# Altium integrated library Maxim Supervisors, Voltage Monitors and Sequencers.IntLib: 631 symbols (part 7 of 13)
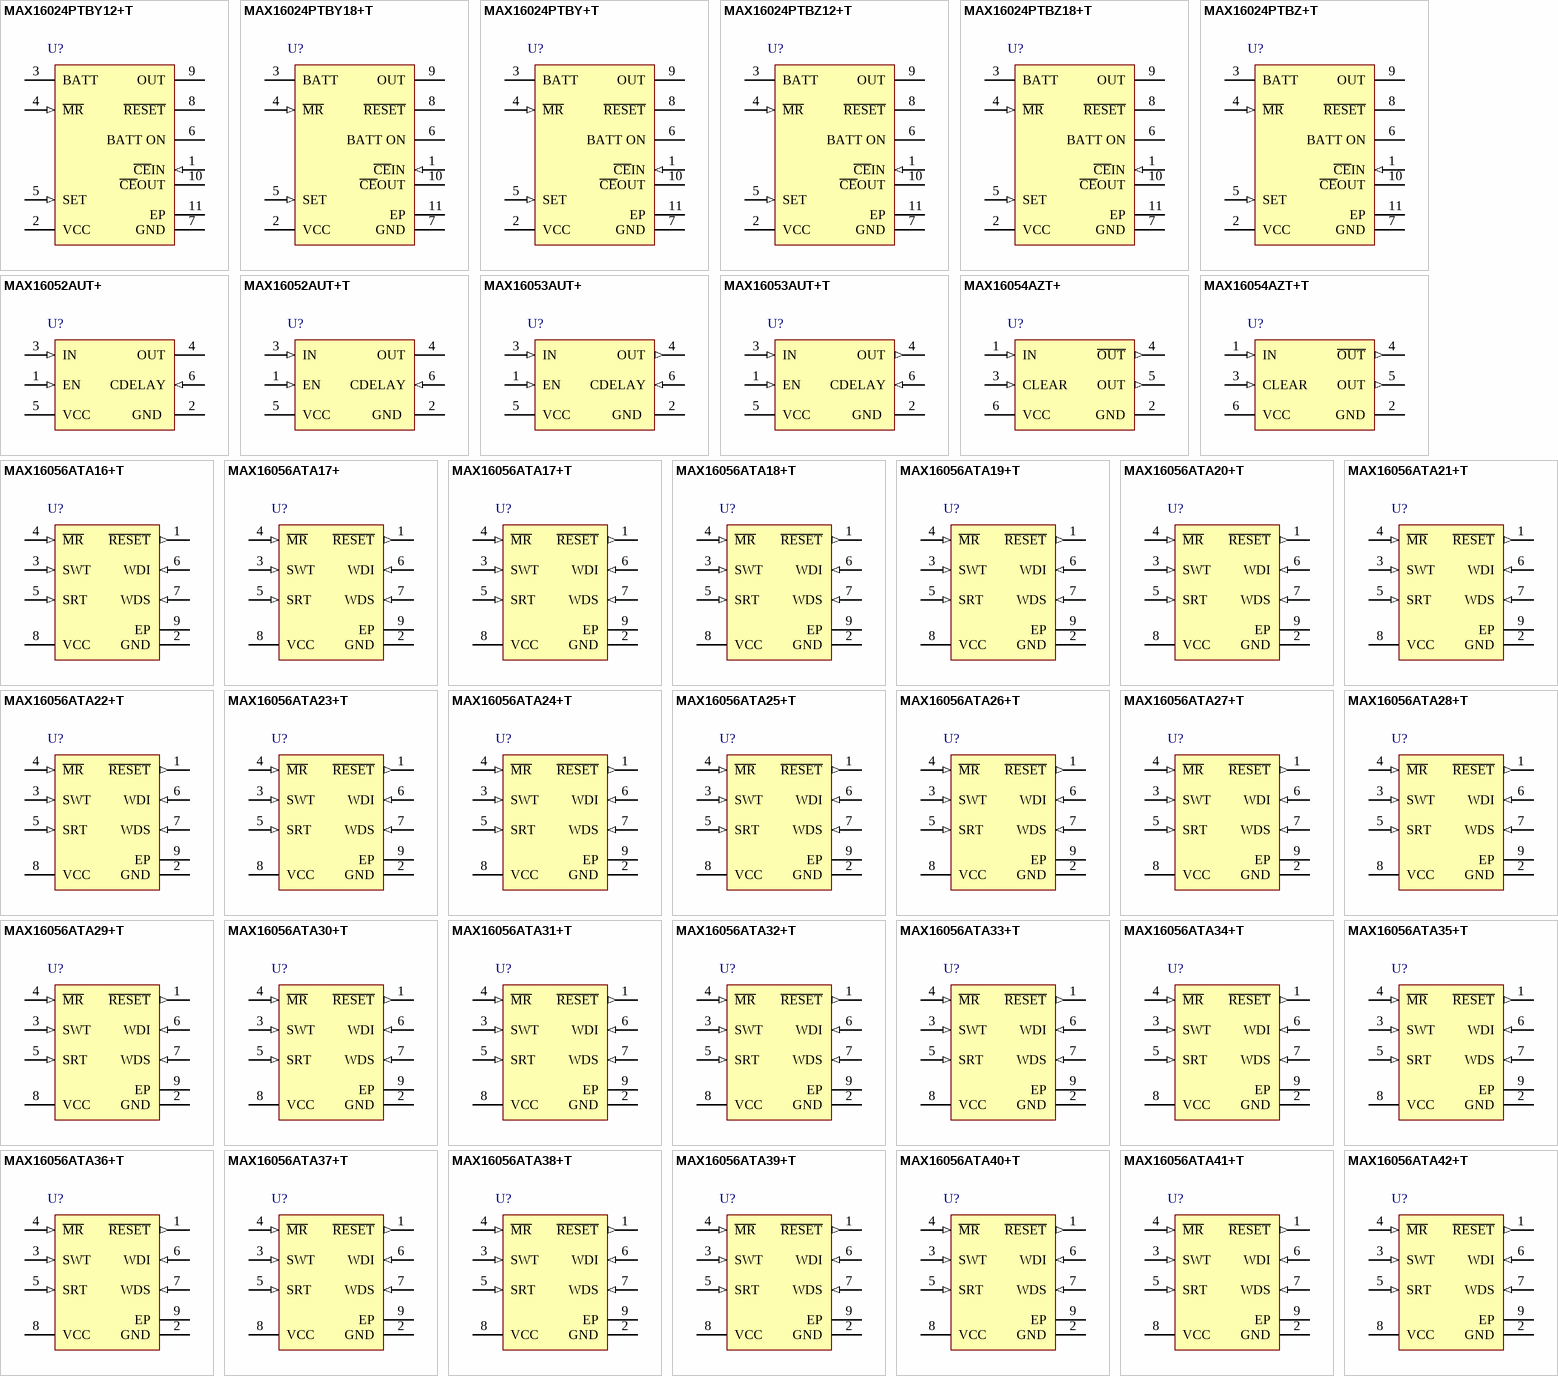
[diagram p23: symbols MAX16024PTBY12+T to MAX16056ATA42+T]

## MAX16024PTBZ+T
designator U?
Battery-Backup Circuit with Regulated Output Voltage, Open Drain output, 1.2V; 1.8V, 2.5V, 3.0V, 3.3V output, 10-Pin TDFN-EP, -40°C to +85°C, Pb-Free, Tape and Reel; DatasheetVersion: Rev 0, Aug-2008; PackageVersion: revJ, 2009; PackageReference: T1033+1; PackageDescription: 10-Pin Plastic Very Very Thin Dual Flatpack No Leads, Exposed Pad, 3 x 3 x 0.8 mm Body, TDFN-EP, Pb-Free; Code_JEDEC: MO-229-WEED-3; ComponentLink1Description: Manufacturer URL; ComponentLink1URL: http://www.maxim-ic.com; ComponentLink2Description: Datasheet; ComponentLink2URL: http://datasheets.maxim-ic.com/en/ds/MAX16023-MAX16024.pdf; ComponentLink3Description: Package Specification; ComponentLink3URL: http://pdfserv.maxim-ic.com/package_dwgs/21-0137.PDF
footprint T1033+1_V (SON, 10-Leads, Body 3x3mm, Pitch 0.5mm, Thermal Pad 2.35x1.58mm, Maxim Recommended)
pins: 1 ~{CE}IN (in), 2 VCC (power), 3 BATT (power), 4 ~{MR} (in), 5 SET (in), 6 BATT ON (oc), 7 GND (power), 8 ~{RESET} (oc), 9 OUT (power), 10 ~{CE}OUT (oc), 11 EP (power)

## MAX16052AUT+
designator U?
High-Voltage, Adjustable Sequencing/Supervisory Circuit, open-drain output, 6-Pin SOT, -40°C to +125°C, Pb-Free; DatasheetVersion: Rev 2, Jan-2010; PackageVersion: revL, 2011; PackageReference: U6+1; PackageDescription: 6-Pin SOT-23 Package, 0.65 mm Pitch, 2.2 mm Lead Span, Pb-Free; Code_JEDEC: MO-178-AB; ComponentLink1Description: Manufacturer URL; ComponentLink1URL: http://www.maxim-ic.com; ComponentLink2Description: Datasheet; ComponentLink2URL: http://datasheets.maxim-ic.com/en/ds/MAX16052-MAX16053.pdf; ComponentLink3Description: Package Specification; ComponentLink3URL: http://pdfserv.maxim-ic.com/package_dwgs/21-0058.PDF
footprint U6+1_N (SOT23, 6-Leads, Body 2.9x1.6mm, Pitch 0.95mm, Lead Span 2.8mm, IPC Medium Density)
footprint U6+1_L (SOT23, 6-Leads, Body 2.9x1.6mm, Pitch 0.95mm, Lead Span 2.8mm, IPC High Density)
footprint U6+1_M (SOT23, 6-Leads, Body 2.9x1.6mm, Pitch 0.95mm, Lead Span 2.8mm, IPC Low Density)
pins: 1 EN  (in), 2 GND  (power), 3 IN  (in), 4 OUT (oc), 5 VCC (power), 6 CDELAY (in)

## MAX16052AUT+T
designator U?
High-Voltage, Adjustable Sequencing/Supervisory Circuit, open-drain output, 6-Pin SOT, -40°C to +125°C, Pb-Free, Tape and Reel; DatasheetVersion: Rev 2, Jan-2010; PackageVersion: revL, 2011; PackageReference: U6+1; PackageDescription: 6-Pin SOT-23 Package, 0.65 mm Pitch, 2.2 mm Lead Span, Pb-Free; Code_JEDEC: MO-178-AB; ComponentLink1Description: Manufacturer URL; ComponentLink1URL: http://www.maxim-ic.com; ComponentLink2Description: Datasheet; ComponentLink2URL: http://datasheets.maxim-ic.com/en/ds/MAX16052-MAX16053.pdf; ComponentLink3Description: Package Specification; ComponentLink3URL: http://pdfserv.maxim-ic.com/package_dwgs/21-0058.PDF
footprint U6+1_N (SOT23, 6-Leads, Body 2.9x1.6mm, Pitch 0.95mm, Lead Span 2.8mm, IPC Medium Density)
footprint U6+1_L (SOT23, 6-Leads, Body 2.9x1.6mm, Pitch 0.95mm, Lead Span 2.8mm, IPC High Density)
footprint U6+1_M (SOT23, 6-Leads, Body 2.9x1.6mm, Pitch 0.95mm, Lead Span 2.8mm, IPC Low Density)
pins: 1 EN  (in), 2 GND  (power), 3 IN  (in), 4 OUT (oc), 5 VCC (power), 6 CDELAY (in)

## MAX16053AUT+
designator U?
High-Voltage, Adjustable Sequencing/Supervisory Circuit, push-pull output, 6-Pin SOT, -40°C to +125°C, Pb-Free; DatasheetVersion: Rev 2, Jan-2010; PackageVersion: revL, 2011; PackageReference: U6+1; PackageDescription: 6-Pin SOT-23 Package, 0.65 mm Pitch, 2.2 mm Lead Span, Pb-Free; Code_JEDEC: MO-178-AB; ComponentLink1Description: Manufacturer URL; ComponentLink1URL: http://www.maxim-ic.com; ComponentLink2Description: Datasheet; ComponentLink2URL: http://datasheets.maxim-ic.com/en/ds/MAX16052-MAX16053.pdf; ComponentLink3Description: Package Specification; ComponentLink3URL: http://pdfserv.maxim-ic.com/package_dwgs/21-0058.PDF
footprint U6+1_N (SOT23, 6-Leads, Body 2.9x1.6mm, Pitch 0.95mm, Lead Span 2.8mm, IPC Medium Density)
footprint U6+1_L (SOT23, 6-Leads, Body 2.9x1.6mm, Pitch 0.95mm, Lead Span 2.8mm, IPC High Density)
footprint U6+1_M (SOT23, 6-Leads, Body 2.9x1.6mm, Pitch 0.95mm, Lead Span 2.8mm, IPC Low Density)
pins: 1 EN  (in), 2 GND  (power), 3 IN  (in), 4 OUT (out), 5 VCC (power), 6 CDELAY (in)

## MAX16053AUT+T
designator U?
High-Voltage, Adjustable Sequencing/Supervisory Circuit, push-pull output, 6-Pin SOT, -40°C to +125°C, Pb-Free, Tape and Reel; DatasheetVersion: Rev 2, Jan-2010; PackageVersion: revL, 2011; PackageReference: U6+1; PackageDescription: 6-Pin SOT-23 Package, 0.65 mm Pitch, 2.2 mm Lead Span, Pb-Free; Code_JEDEC: MO-178-AB; ComponentLink1Description: Manufacturer URL; ComponentLink1URL: http://www.maxim-ic.com; ComponentLink2Description: Datasheet; ComponentLink2URL: http://datasheets.maxim-ic.com/en/ds/MAX16052-MAX16053.pdf; ComponentLink3Description: Package Specification; ComponentLink3URL: http://pdfserv.maxim-ic.com/package_dwgs/21-0058.PDF
footprint U6+1_N (SOT23, 6-Leads, Body 2.9x1.6mm, Pitch 0.95mm, Lead Span 2.8mm, IPC Medium Density)
footprint U6+1_L (SOT23, 6-Leads, Body 2.9x1.6mm, Pitch 0.95mm, Lead Span 2.8mm, IPC High Density)
footprint U6+1_M (SOT23, 6-Leads, Body 2.9x1.6mm, Pitch 0.95mm, Lead Span 2.8mm, IPC Low Density)
pins: 1 EN  (in), 2 GND  (power), 3 IN  (in), 4 OUT (out), 5 VCC (power), 6 CDELAY (in)

## MAX16054AZT+
designator U?
On/Off Controller with Debounce and +/-15kV ESD Protection, 6-Pin SOT, -40°C to +125°C, Pb-Free; DatasheetVersion: Rev 0, May-2008; PackageVersion: revD, 2011; PackageReference: z6+1; PackageDescription: 6-Pin Thin Small-Outline Transistor, 2.9 x 1.6 mm Body, 0.95 mm Pitch, 2.8 mm Lead Span, SOT-23, Pb-Free; Code_JEITA: SC-74; Code_JEDEC: MO-193*; ComponentLink1Description: Manufacturer URL; ComponentLink1URL: http://www.maxim-ic.com; ComponentLink2Description: Datasheet; ComponentLink2URL: http://datasheets.maxim-ic.com/en/ds/MAX16054.pdf; ComponentLink3Description: Package Specification; ComponentLink3URL: http://pdfserv.maxim-ic.com/package_dwgs/21-0114.PDF
footprint Z6+1_N (SOT23, 6-Leads, Body 2.9x1.6mm, Pitch 0.95mm, Lead Span 2.8mm, IPC Medium Density)
footprint Z6+1_L (SOT23, 6-Leads, Body 2.9x1.6mm, Pitch 0.95mm, Lead Span 2.8mm, IPC High Density)
footprint Z6+1_M (SOT23, 6-Leads, Body 2.9x1.6mm, Pitch 0.95mm, Lead Span 2.8mm, IPC Low Density)
pins: 1 IN (in), 2 GND (power), 3 CLEAR (in), 4 ~{OUT} (out), 5 OUT (out), 6 VCC (power)

## MAX16054AZT+T
designator U?
On/Off Controller with Debounce and +/-15kV ESD Protection, 6-Pin SOT, -40°C to +125°C, Pb-Free, Tape and Reel; DatasheetVersion: Rev 0, May-2008; PackageVersion: revD, 2011; PackageReference: z6+1; PackageDescription: 6-Pin Thin Small-Outline Transistor, 2.9 x 1.6 mm Body, 0.95 mm Pitch, 2.8 mm Lead Span, SOT-23, Pb-Free; Code_JEITA: SC-74; Code_JEDEC: MO-193*; ComponentLink1Description: Manufacturer URL; ComponentLink1URL: http://www.maxim-ic.com; ComponentLink2Description: Datasheet; ComponentLink2URL: http://datasheets.maxim-ic.com/en/ds/MAX16054.pdf; ComponentLink3Description: Package Specification; ComponentLink3URL: http://pdfserv.maxim-ic.com/package_dwgs/21-0114.PDF
footprint Z6+1_N (SOT23, 6-Leads, Body 2.9x1.6mm, Pitch 0.95mm, Lead Span 2.8mm, IPC Medium Density)
footprint Z6+1_L (SOT23, 6-Leads, Body 2.9x1.6mm, Pitch 0.95mm, Lead Span 2.8mm, IPC High Density)
footprint Z6+1_M (SOT23, 6-Leads, Body 2.9x1.6mm, Pitch 0.95mm, Lead Span 2.8mm, IPC Low Density)
pins: 1 IN (in), 2 GND (power), 3 CLEAR (in), 4 ~{OUT} (out), 5 OUT (out), 6 VCC (power)

## MAX16056ATA16+T
designator U?
125nA Supervisory Circuit with Capacitor-Adjustable Reset and Watchdog Timeouts, push-pull reset, Watch-dog timer, 8-Pin TDFN, -40°C to +125°C, Pb-Free, Tape and Reel; DatasheetVersion: Rev 1, Jun-2010; PackageVersion: revJ, 2009; PackageReference: T833+2; PackageDescription: 8-Pin Plastic Very Very Thin Dual Flatpack No Leads, Exposed Pad, 3 x 3 x 0.8 mm Body, TDFN-EP, Pb-Free; Code_JEDEC: MO-229-WEEC; ComponentLink1Description: Manufacturer URL; ComponentLink1URL: http://www.maxim-ic.com; ComponentLink2Description: Datasheet; ComponentLink2URL: http://datasheets.maxim-ic.com/en/ds/MAX16056-MAX16059.pdf; ComponentLink3Description: Package Specification; ComponentLink3URL: http://pdfserv.maxim-ic.com/package_dwgs/21-0137.PDF
footprint T833+2 (SON, 8-Leads, Body 3x3 mm, Pitch 0.65mm, Thermal Pad 2.35x1.58mm, Maxim Recommended)
pins: 1 ~{RESET} (out), 2 GND (power), 3 SWT (in), 4 ~{MR} (in), 5 SRT (in), 6 WDI (in), 7 WDS (in), 8 VCC (power), 9 EP (power)

## MAX16056ATA17+
designator U?
125nA Supervisory Circuit with Capacitor-Adjustable Reset and Watchdog Timeouts, push-pull reset, Watch-dog timer, 8-Pin TDFN, -40°C to +125°C, Pb-Free; DatasheetVersion: Rev 1, Jun-2010; PackageVersion: revJ, 2009; PackageReference: T833+2; PackageDescription: 8-Pin Plastic Very Very Thin Dual Flatpack No Leads, Exposed Pad, 3 x 3 x 0.8 mm Body, TDFN-EP, Pb-Free; Code_JEDEC: MO-229-WEEC; ComponentLink1Description: Manufacturer URL; ComponentLink1URL: http://www.maxim-ic.com; ComponentLink2Description: Datasheet; ComponentLink2URL: http://datasheets.maxim-ic.com/en/ds/MAX16056-MAX16059.pdf; ComponentLink3Description: Package Specification; ComponentLink3URL: http://pdfserv.maxim-ic.com/package_dwgs/21-0137.PDF
footprint T833+2 (SON, 8-Leads, Body 3x3 mm, Pitch 0.65mm, Thermal Pad 2.35x1.58mm, Maxim Recommended)
pins: 1 ~{RESET} (out), 2 GND (power), 3 SWT (in), 4 ~{MR} (in), 5 SRT (in), 6 WDI (in), 7 WDS (in), 8 VCC (power), 9 EP (power)

## MAX16056ATA17+T
designator U?
125nA Supervisory Circuit with Capacitor-Adjustable Reset and Watchdog Timeouts, push-pull reset, Watch-dog timer, 8-Pin TDFN, -40°C to +125°C, Pb-Free, Tape and Reel; DatasheetVersion: Rev 1, Jun-2010; PackageVersion: revJ, 2009; PackageReference: T833+2; PackageDescription: 8-Pin Plastic Very Very Thin Dual Flatpack No Leads, Exposed Pad, 3 x 3 x 0.8 mm Body, TDFN-EP, Pb-Free; Code_JEDEC: MO-229-WEEC; ComponentLink1Description: Manufacturer URL; ComponentLink1URL: http://www.maxim-ic.com; ComponentLink2Description: Datasheet; ComponentLink2URL: http://datasheets.maxim-ic.com/en/ds/MAX16056-MAX16059.pdf; ComponentLink3Description: Package Specification; ComponentLink3URL: http://pdfserv.maxim-ic.com/package_dwgs/21-0137.PDF
footprint T833+2 (SON, 8-Leads, Body 3x3 mm, Pitch 0.65mm, Thermal Pad 2.35x1.58mm, Maxim Recommended)
pins: 1 ~{RESET} (out), 2 GND (power), 3 SWT (in), 4 ~{MR} (in), 5 SRT (in), 6 WDI (in), 7 WDS (in), 8 VCC (power), 9 EP (power)

## MAX16056ATA18+T
designator U?
125nA Supervisory Circuit with Capacitor-Adjustable Reset and Watchdog Timeouts, push-pull reset, Watch-dog timer, 8-Pin TDFN, -40°C to +125°C, Pb-Free, Tape and Reel; DatasheetVersion: Rev 1, Jun-2010; PackageVersion: revJ, 2009; PackageReference: T833+2; PackageDescription: 8-Pin Plastic Very Very Thin Dual Flatpack No Leads, Exposed Pad, 3 x 3 x 0.8 mm Body, TDFN-EP, Pb-Free; Code_JEDEC: MO-229-WEEC; ComponentLink1Description: Manufacturer URL; ComponentLink1URL: http://www.maxim-ic.com; ComponentLink2Description: Datasheet; ComponentLink2URL: http://datasheets.maxim-ic.com/en/ds/MAX16056-MAX16059.pdf; ComponentLink3Description: Package Specification; ComponentLink3URL: http://pdfserv.maxim-ic.com/package_dwgs/21-0137.PDF
footprint T833+2 (SON, 8-Leads, Body 3x3 mm, Pitch 0.65mm, Thermal Pad 2.35x1.58mm, Maxim Recommended)
pins: 1 ~{RESET} (out), 2 GND (power), 3 SWT (in), 4 ~{MR} (in), 5 SRT (in), 6 WDI (in), 7 WDS (in), 8 VCC (power), 9 EP (power)

## MAX16056ATA19+T
designator U?
125nA Supervisory Circuit with Capacitor-Adjustable Reset and Watchdog Timeouts, push-pull reset, Watch-dog timer, 8-Pin TDFN, -40°C to +125°C, Pb-Free, Tape and Reel; DatasheetVersion: Rev 1, Jun-2010; PackageVersion: revJ, 2009; PackageReference: T833+2; PackageDescription: 8-Pin Plastic Very Very Thin Dual Flatpack No Leads, Exposed Pad, 3 x 3 x 0.8 mm Body, TDFN-EP, Pb-Free; Code_JEDEC: MO-229-WEEC; ComponentLink1Description: Manufacturer URL; ComponentLink1URL: http://www.maxim-ic.com; ComponentLink2Description: Datasheet; ComponentLink2URL: http://datasheets.maxim-ic.com/en/ds/MAX16056-MAX16059.pdf; ComponentLink3Description: Package Specification; ComponentLink3URL: http://pdfserv.maxim-ic.com/package_dwgs/21-0137.PDF
footprint T833+2 (SON, 8-Leads, Body 3x3 mm, Pitch 0.65mm, Thermal Pad 2.35x1.58mm, Maxim Recommended)
pins: 1 ~{RESET} (out), 2 GND (power), 3 SWT (in), 4 ~{MR} (in), 5 SRT (in), 6 WDI (in), 7 WDS (in), 8 VCC (power), 9 EP (power)

## MAX16056ATA20+T
designator U?
125nA Supervisory Circuit with Capacitor-Adjustable Reset and Watchdog Timeouts, push-pull reset, Watch-dog timer, 8-Pin TDFN, -40°C to +125°C, Pb-Free, Tape and Reel; DatasheetVersion: Rev 1, Jun-2010; PackageVersion: revJ, 2009; PackageReference: T833+2; PackageDescription: 8-Pin Plastic Very Very Thin Dual Flatpack No Leads, Exposed Pad, 3 x 3 x 0.8 mm Body, TDFN-EP, Pb-Free; Code_JEDEC: MO-229-WEEC; ComponentLink1Description: Manufacturer URL; ComponentLink1URL: http://www.maxim-ic.com; ComponentLink2Description: Datasheet; ComponentLink2URL: http://datasheets.maxim-ic.com/en/ds/MAX16056-MAX16059.pdf; ComponentLink3Description: Package Specification; ComponentLink3URL: http://pdfserv.maxim-ic.com/package_dwgs/21-0137.PDF
footprint T833+2 (SON, 8-Leads, Body 3x3 mm, Pitch 0.65mm, Thermal Pad 2.35x1.58mm, Maxim Recommended)
pins: 1 ~{RESET} (out), 2 GND (power), 3 SWT (in), 4 ~{MR} (in), 5 SRT (in), 6 WDI (in), 7 WDS (in), 8 VCC (power), 9 EP (power)

## MAX16056ATA21+T
designator U?
125nA Supervisory Circuit with Capacitor-Adjustable Reset and Watchdog Timeouts, push-pull reset, Watch-dog timer, 8-Pin TDFN, -40°C to +125°C, Pb-Free, Tape and Reel; DatasheetVersion: Rev 1, Jun-2010; PackageVersion: revJ, 2009; PackageReference: T833+2; PackageDescription: 8-Pin Plastic Very Very Thin Dual Flatpack No Leads, Exposed Pad, 3 x 3 x 0.8 mm Body, TDFN-EP, Pb-Free; Code_JEDEC: MO-229-WEEC; ComponentLink1Description: Manufacturer URL; ComponentLink1URL: http://www.maxim-ic.com; ComponentLink2Description: Datasheet; ComponentLink2URL: http://datasheets.maxim-ic.com/en/ds/MAX16056-MAX16059.pdf; ComponentLink3Description: Package Specification; ComponentLink3URL: http://pdfserv.maxim-ic.com/package_dwgs/21-0137.PDF
footprint T833+2 (SON, 8-Leads, Body 3x3 mm, Pitch 0.65mm, Thermal Pad 2.35x1.58mm, Maxim Recommended)
pins: 1 ~{RESET} (out), 2 GND (power), 3 SWT (in), 4 ~{MR} (in), 5 SRT (in), 6 WDI (in), 7 WDS (in), 8 VCC (power), 9 EP (power)

## MAX16056ATA22+T
designator U?
125nA Supervisory Circuit with Capacitor-Adjustable Reset and Watchdog Timeouts, push-pull reset, Watch-dog timer, 8-Pin TDFN, -40°C to +125°C, Pb-Free, Tape and Reel; DatasheetVersion: Rev 1, Jun-2010; PackageVersion: revJ, 2009; PackageReference: T833+2; PackageDescription: 8-Pin Plastic Very Very Thin Dual Flatpack No Leads, Exposed Pad, 3 x 3 x 0.8 mm Body, TDFN-EP, Pb-Free; Code_JEDEC: MO-229-WEEC; ComponentLink1Description: Manufacturer URL; ComponentLink1URL: http://www.maxim-ic.com; ComponentLink2Description: Datasheet; ComponentLink2URL: http://datasheets.maxim-ic.com/en/ds/MAX16056-MAX16059.pdf; ComponentLink3Description: Package Specification; ComponentLink3URL: http://pdfserv.maxim-ic.com/package_dwgs/21-0137.PDF
footprint T833+2 (SON, 8-Leads, Body 3x3 mm, Pitch 0.65mm, Thermal Pad 2.35x1.58mm, Maxim Recommended)
pins: 1 ~{RESET} (out), 2 GND (power), 3 SWT (in), 4 ~{MR} (in), 5 SRT (in), 6 WDI (in), 7 WDS (in), 8 VCC (power), 9 EP (power)

## MAX16056ATA23+T
designator U?
125nA Supervisory Circuit with Capacitor-Adjustable Reset and Watchdog Timeouts, push-pull reset, Watch-dog timer, 8-Pin TDFN, -40°C to +125°C, Pb-Free, Tape and Reel; DatasheetVersion: Rev 1, Jun-2010; PackageVersion: revJ, 2009; PackageReference: T833+2; PackageDescription: 8-Pin Plastic Very Very Thin Dual Flatpack No Leads, Exposed Pad, 3 x 3 x 0.8 mm Body, TDFN-EP, Pb-Free; Code_JEDEC: MO-229-WEEC; ComponentLink1Description: Manufacturer URL; ComponentLink1URL: http://www.maxim-ic.com; ComponentLink2Description: Datasheet; ComponentLink2URL: http://datasheets.maxim-ic.com/en/ds/MAX16056-MAX16059.pdf; ComponentLink3Description: Package Specification; ComponentLink3URL: http://pdfserv.maxim-ic.com/package_dwgs/21-0137.PDF
footprint T833+2 (SON, 8-Leads, Body 3x3 mm, Pitch 0.65mm, Thermal Pad 2.35x1.58mm, Maxim Recommended)
pins: 1 ~{RESET} (out), 2 GND (power), 3 SWT (in), 4 ~{MR} (in), 5 SRT (in), 6 WDI (in), 7 WDS (in), 8 VCC (power), 9 EP (power)

## MAX16056ATA24+T
designator U?
125nA Supervisory Circuit with Capacitor-Adjustable Reset and Watchdog Timeouts, push-pull reset, Watch-dog timer, 8-Pin TDFN, -40°C to +125°C, Pb-Free, Tape and Reel; DatasheetVersion: Rev 1, Jun-2010; PackageVersion: revJ, 2009; PackageReference: T833+2; PackageDescription: 8-Pin Plastic Very Very Thin Dual Flatpack No Leads, Exposed Pad, 3 x 3 x 0.8 mm Body, TDFN-EP, Pb-Free; Code_JEDEC: MO-229-WEEC; ComponentLink1Description: Manufacturer URL; ComponentLink1URL: http://www.maxim-ic.com; ComponentLink2Description: Datasheet; ComponentLink2URL: http://datasheets.maxim-ic.com/en/ds/MAX16056-MAX16059.pdf; ComponentLink3Description: Package Specification; ComponentLink3URL: http://pdfserv.maxim-ic.com/package_dwgs/21-0137.PDF
footprint T833+2 (SON, 8-Leads, Body 3x3 mm, Pitch 0.65mm, Thermal Pad 2.35x1.58mm, Maxim Recommended)
pins: 1 ~{RESET} (out), 2 GND (power), 3 SWT (in), 4 ~{MR} (in), 5 SRT (in), 6 WDI (in), 7 WDS (in), 8 VCC (power), 9 EP (power)

## MAX16056ATA25+T
designator U?
125nA Supervisory Circuit with Capacitor-Adjustable Reset and Watchdog Timeouts, push-pull reset, Watch-dog timer, 8-Pin TDFN, -40°C to +125°C, Pb-Free, Tape and Reel; DatasheetVersion: Rev 1, Jun-2010; PackageVersion: revJ, 2009; PackageReference: T833+2; PackageDescription: 8-Pin Plastic Very Very Thin Dual Flatpack No Leads, Exposed Pad, 3 x 3 x 0.8 mm Body, TDFN-EP, Pb-Free; Code_JEDEC: MO-229-WEEC; ComponentLink1Description: Manufacturer URL; ComponentLink1URL: http://www.maxim-ic.com; ComponentLink2Description: Datasheet; ComponentLink2URL: http://datasheets.maxim-ic.com/en/ds/MAX16056-MAX16059.pdf; ComponentLink3Description: Package Specification; ComponentLink3URL: http://pdfserv.maxim-ic.com/package_dwgs/21-0137.PDF
footprint T833+2 (SON, 8-Leads, Body 3x3 mm, Pitch 0.65mm, Thermal Pad 2.35x1.58mm, Maxim Recommended)
pins: 1 ~{RESET} (out), 2 GND (power), 3 SWT (in), 4 ~{MR} (in), 5 SRT (in), 6 WDI (in), 7 WDS (in), 8 VCC (power), 9 EP (power)

## MAX16056ATA26+T
designator U?
125nA Supervisory Circuit with Capacitor-Adjustable Reset and Watchdog Timeouts, push-pull reset, Watch-dog timer, 8-Pin TDFN, -40°C to +125°C, Pb-Free, Tape and Reel; DatasheetVersion: Rev 1, Jun-2010; PackageVersion: revJ, 2009; PackageReference: T833+2; PackageDescription: 8-Pin Plastic Very Very Thin Dual Flatpack No Leads, Exposed Pad, 3 x 3 x 0.8 mm Body, TDFN-EP, Pb-Free; Code_JEDEC: MO-229-WEEC; ComponentLink1Description: Manufacturer URL; ComponentLink1URL: http://www.maxim-ic.com; ComponentLink2Description: Datasheet; ComponentLink2URL: http://datasheets.maxim-ic.com/en/ds/MAX16056-MAX16059.pdf; ComponentLink3Description: Package Specification; ComponentLink3URL: http://pdfserv.maxim-ic.com/package_dwgs/21-0137.PDF
footprint T833+2 (SON, 8-Leads, Body 3x3 mm, Pitch 0.65mm, Thermal Pad 2.35x1.58mm, Maxim Recommended)
pins: 1 ~{RESET} (out), 2 GND (power), 3 SWT (in), 4 ~{MR} (in), 5 SRT (in), 6 WDI (in), 7 WDS (in), 8 VCC (power), 9 EP (power)

## MAX16056ATA27+T
designator U?
125nA Supervisory Circuit with Capacitor-Adjustable Reset and Watchdog Timeouts, push-pull reset, Watch-dog timer, 8-Pin TDFN, -40°C to +125°C, Pb-Free, Tape and Reel; DatasheetVersion: Rev 1, Jun-2010; PackageVersion: revJ, 2009; PackageReference: T833+2; PackageDescription: 8-Pin Plastic Very Very Thin Dual Flatpack No Leads, Exposed Pad, 3 x 3 x 0.8 mm Body, TDFN-EP, Pb-Free; Code_JEDEC: MO-229-WEEC; ComponentLink1Description: Manufacturer URL; ComponentLink1URL: http://www.maxim-ic.com; ComponentLink2Description: Datasheet; ComponentLink2URL: http://datasheets.maxim-ic.com/en/ds/MAX16056-MAX16059.pdf; ComponentLink3Description: Package Specification; ComponentLink3URL: http://pdfserv.maxim-ic.com/package_dwgs/21-0137.PDF
footprint T833+2 (SON, 8-Leads, Body 3x3 mm, Pitch 0.65mm, Thermal Pad 2.35x1.58mm, Maxim Recommended)
pins: 1 ~{RESET} (out), 2 GND (power), 3 SWT (in), 4 ~{MR} (in), 5 SRT (in), 6 WDI (in), 7 WDS (in), 8 VCC (power), 9 EP (power)

## MAX16056ATA28+T
designator U?
125nA Supervisory Circuit with Capacitor-Adjustable Reset and Watchdog Timeouts, push-pull reset, Watch-dog timer, 8-Pin TDFN, -40°C to +125°C, Pb-Free, Tape and Reel; DatasheetVersion: Rev 1, Jun-2010; PackageVersion: revJ, 2009; PackageReference: T833+2; PackageDescription: 8-Pin Plastic Very Very Thin Dual Flatpack No Leads, Exposed Pad, 3 x 3 x 0.8 mm Body, TDFN-EP, Pb-Free; Code_JEDEC: MO-229-WEEC; ComponentLink1Description: Manufacturer URL; ComponentLink1URL: http://www.maxim-ic.com; ComponentLink2Description: Datasheet; ComponentLink2URL: http://datasheets.maxim-ic.com/en/ds/MAX16056-MAX16059.pdf; ComponentLink3Description: Package Specification; ComponentLink3URL: http://pdfserv.maxim-ic.com/package_dwgs/21-0137.PDF
footprint T833+2 (SON, 8-Leads, Body 3x3 mm, Pitch 0.65mm, Thermal Pad 2.35x1.58mm, Maxim Recommended)
pins: 1 ~{RESET} (out), 2 GND (power), 3 SWT (in), 4 ~{MR} (in), 5 SRT (in), 6 WDI (in), 7 WDS (in), 8 VCC (power), 9 EP (power)

## MAX16056ATA29+T
designator U?
125nA Supervisory Circuit with Capacitor-Adjustable Reset and Watchdog Timeouts, push-pull reset, Watch-dog timer, 8-Pin TDFN, -40°C to +125°C, Pb-Free, Tape and Reel; DatasheetVersion: Rev 1, Jun-2010; PackageVersion: revJ, 2009; PackageReference: T833+2; PackageDescription: 8-Pin Plastic Very Very Thin Dual Flatpack No Leads, Exposed Pad, 3 x 3 x 0.8 mm Body, TDFN-EP, Pb-Free; Code_JEDEC: MO-229-WEEC; ComponentLink1Description: Manufacturer URL; ComponentLink1URL: http://www.maxim-ic.com; ComponentLink2Description: Datasheet; ComponentLink2URL: http://datasheets.maxim-ic.com/en/ds/MAX16056-MAX16059.pdf; ComponentLink3Description: Package Specification; ComponentLink3URL: http://pdfserv.maxim-ic.com/package_dwgs/21-0137.PDF
footprint T833+2 (SON, 8-Leads, Body 3x3 mm, Pitch 0.65mm, Thermal Pad 2.35x1.58mm, Maxim Recommended)
pins: 1 ~{RESET} (out), 2 GND (power), 3 SWT (in), 4 ~{MR} (in), 5 SRT (in), 6 WDI (in), 7 WDS (in), 8 VCC (power), 9 EP (power)

## MAX16056ATA30+T
designator U?
125nA Supervisory Circuit with Capacitor-Adjustable Reset and Watchdog Timeouts, push-pull reset, Watch-dog timer, 8-Pin TDFN, -40°C to +125°C, Pb-Free, Tape and Reel; DatasheetVersion: Rev 1, Jun-2010; PackageVersion: revJ, 2009; PackageReference: T833+2; PackageDescription: 8-Pin Plastic Very Very Thin Dual Flatpack No Leads, Exposed Pad, 3 x 3 x 0.8 mm Body, TDFN-EP, Pb-Free; Code_JEDEC: MO-229-WEEC; ComponentLink1Description: Manufacturer URL; ComponentLink1URL: http://www.maxim-ic.com; ComponentLink2Description: Datasheet; ComponentLink2URL: http://datasheets.maxim-ic.com/en/ds/MAX16056-MAX16059.pdf; ComponentLink3Description: Package Specification; ComponentLink3URL: http://pdfserv.maxim-ic.com/package_dwgs/21-0137.PDF
footprint T833+2 (SON, 8-Leads, Body 3x3 mm, Pitch 0.65mm, Thermal Pad 2.35x1.58mm, Maxim Recommended)
pins: 1 ~{RESET} (out), 2 GND (power), 3 SWT (in), 4 ~{MR} (in), 5 SRT (in), 6 WDI (in), 7 WDS (in), 8 VCC (power), 9 EP (power)

## MAX16056ATA31+T
designator U?
125nA Supervisory Circuit with Capacitor-Adjustable Reset and Watchdog Timeouts, push-pull reset, Watch-dog timer, 8-Pin TDFN, -40°C to +125°C, Pb-Free, Tape and Reel; DatasheetVersion: Rev 1, Jun-2010; PackageVersion: revJ, 2009; PackageReference: T833+2; PackageDescription: 8-Pin Plastic Very Very Thin Dual Flatpack No Leads, Exposed Pad, 3 x 3 x 0.8 mm Body, TDFN-EP, Pb-Free; Code_JEDEC: MO-229-WEEC; ComponentLink1Description: Manufacturer URL; ComponentLink1URL: http://www.maxim-ic.com; ComponentLink2Description: Datasheet; ComponentLink2URL: http://datasheets.maxim-ic.com/en/ds/MAX16056-MAX16059.pdf; ComponentLink3Description: Package Specification; ComponentLink3URL: http://pdfserv.maxim-ic.com/package_dwgs/21-0137.PDF
footprint T833+2 (SON, 8-Leads, Body 3x3 mm, Pitch 0.65mm, Thermal Pad 2.35x1.58mm, Maxim Recommended)
pins: 1 ~{RESET} (out), 2 GND (power), 3 SWT (in), 4 ~{MR} (in), 5 SRT (in), 6 WDI (in), 7 WDS (in), 8 VCC (power), 9 EP (power)

## MAX16056ATA32+T
designator U?
125nA Supervisory Circuit with Capacitor-Adjustable Reset and Watchdog Timeouts, push-pull reset, Watch-dog timer, 8-Pin TDFN, -40°C to +125°C, Pb-Free, Tape and Reel; DatasheetVersion: Rev 1, Jun-2010; PackageVersion: revJ, 2009; PackageReference: T833+2; PackageDescription: 8-Pin Plastic Very Very Thin Dual Flatpack No Leads, Exposed Pad, 3 x 3 x 0.8 mm Body, TDFN-EP, Pb-Free; Code_JEDEC: MO-229-WEEC; ComponentLink1Description: Manufacturer URL; ComponentLink1URL: http://www.maxim-ic.com; ComponentLink2Description: Datasheet; ComponentLink2URL: http://datasheets.maxim-ic.com/en/ds/MAX16056-MAX16059.pdf; ComponentLink3Description: Package Specification; ComponentLink3URL: http://pdfserv.maxim-ic.com/package_dwgs/21-0137.PDF
footprint T833+2 (SON, 8-Leads, Body 3x3 mm, Pitch 0.65mm, Thermal Pad 2.35x1.58mm, Maxim Recommended)
pins: 1 ~{RESET} (out), 2 GND (power), 3 SWT (in), 4 ~{MR} (in), 5 SRT (in), 6 WDI (in), 7 WDS (in), 8 VCC (power), 9 EP (power)

## MAX16056ATA33+T
designator U?
125nA Supervisory Circuit with Capacitor-Adjustable Reset and Watchdog Timeouts, push-pull reset, Watch-dog timer, 8-Pin TDFN, -40°C to +125°C, Pb-Free, Tape and Reel; DatasheetVersion: Rev 1, Jun-2010; PackageVersion: revJ, 2009; PackageReference: T833+2; PackageDescription: 8-Pin Plastic Very Very Thin Dual Flatpack No Leads, Exposed Pad, 3 x 3 x 0.8 mm Body, TDFN-EP, Pb-Free; Code_JEDEC: MO-229-WEEC; ComponentLink1Description: Manufacturer URL; ComponentLink1URL: http://www.maxim-ic.com; ComponentLink2Description: Datasheet; ComponentLink2URL: http://datasheets.maxim-ic.com/en/ds/MAX16056-MAX16059.pdf; ComponentLink3Description: Package Specification; ComponentLink3URL: http://pdfserv.maxim-ic.com/package_dwgs/21-0137.PDF
footprint T833+2 (SON, 8-Leads, Body 3x3 mm, Pitch 0.65mm, Thermal Pad 2.35x1.58mm, Maxim Recommended)
pins: 1 ~{RESET} (out), 2 GND (power), 3 SWT (in), 4 ~{MR} (in), 5 SRT (in), 6 WDI (in), 7 WDS (in), 8 VCC (power), 9 EP (power)

## MAX16056ATA34+T
designator U?
125nA Supervisory Circuit with Capacitor-Adjustable Reset and Watchdog Timeouts, push-pull reset, Watch-dog timer, 8-Pin TDFN, -40°C to +125°C, Pb-Free, Tape and Reel; DatasheetVersion: Rev 1, Jun-2010; PackageVersion: revJ, 2009; PackageReference: T833+2; PackageDescription: 8-Pin Plastic Very Very Thin Dual Flatpack No Leads, Exposed Pad, 3 x 3 x 0.8 mm Body, TDFN-EP, Pb-Free; Code_JEDEC: MO-229-WEEC; ComponentLink1Description: Manufacturer URL; ComponentLink1URL: http://www.maxim-ic.com; ComponentLink2Description: Datasheet; ComponentLink2URL: http://datasheets.maxim-ic.com/en/ds/MAX16056-MAX16059.pdf; ComponentLink3Description: Package Specification; ComponentLink3URL: http://pdfserv.maxim-ic.com/package_dwgs/21-0137.PDF
footprint T833+2 (SON, 8-Leads, Body 3x3 mm, Pitch 0.65mm, Thermal Pad 2.35x1.58mm, Maxim Recommended)
pins: 1 ~{RESET} (out), 2 GND (power), 3 SWT (in), 4 ~{MR} (in), 5 SRT (in), 6 WDI (in), 7 WDS (in), 8 VCC (power), 9 EP (power)

## MAX16056ATA35+T
designator U?
125nA Supervisory Circuit with Capacitor-Adjustable Reset and Watchdog Timeouts, push-pull reset, Watch-dog timer, 8-Pin TDFN, -40°C to +125°C, Pb-Free, Tape and Reel; DatasheetVersion: Rev 1, Jun-2010; PackageVersion: revJ, 2009; PackageReference: T833+2; PackageDescription: 8-Pin Plastic Very Very Thin Dual Flatpack No Leads, Exposed Pad, 3 x 3 x 0.8 mm Body, TDFN-EP, Pb-Free; Code_JEDEC: MO-229-WEEC; ComponentLink1Description: Manufacturer URL; ComponentLink1URL: http://www.maxim-ic.com; ComponentLink2Description: Datasheet; ComponentLink2URL: http://datasheets.maxim-ic.com/en/ds/MAX16056-MAX16059.pdf; ComponentLink3Description: Package Specification; ComponentLink3URL: http://pdfserv.maxim-ic.com/package_dwgs/21-0137.PDF
footprint T833+2 (SON, 8-Leads, Body 3x3 mm, Pitch 0.65mm, Thermal Pad 2.35x1.58mm, Maxim Recommended)
pins: 1 ~{RESET} (out), 2 GND (power), 3 SWT (in), 4 ~{MR} (in), 5 SRT (in), 6 WDI (in), 7 WDS (in), 8 VCC (power), 9 EP (power)

## MAX16056ATA36+T
designator U?
125nA Supervisory Circuit with Capacitor-Adjustable Reset and Watchdog Timeouts, push-pull reset, Watch-dog timer, 8-Pin TDFN, -40°C to +125°C, Pb-Free, Tape and Reel; DatasheetVersion: Rev 1, Jun-2010; PackageVersion: revJ, 2009; PackageReference: T833+2; PackageDescription: 8-Pin Plastic Very Very Thin Dual Flatpack No Leads, Exposed Pad, 3 x 3 x 0.8 mm Body, TDFN-EP, Pb-Free; Code_JEDEC: MO-229-WEEC; ComponentLink1Description: Manufacturer URL; ComponentLink1URL: http://www.maxim-ic.com; ComponentLink2Description: Datasheet; ComponentLink2URL: http://datasheets.maxim-ic.com/en/ds/MAX16056-MAX16059.pdf; ComponentLink3Description: Package Specification; ComponentLink3URL: http://pdfserv.maxim-ic.com/package_dwgs/21-0137.PDF
footprint T833+2 (SON, 8-Leads, Body 3x3 mm, Pitch 0.65mm, Thermal Pad 2.35x1.58mm, Maxim Recommended)
pins: 1 ~{RESET} (out), 2 GND (power), 3 SWT (in), 4 ~{MR} (in), 5 SRT (in), 6 WDI (in), 7 WDS (in), 8 VCC (power), 9 EP (power)

## MAX16056ATA37+T
designator U?
125nA Supervisory Circuit with Capacitor-Adjustable Reset and Watchdog Timeouts, push-pull reset, Watch-dog timer, 8-Pin TDFN, -40°C to +125°C, Pb-Free, Tape and Reel; DatasheetVersion: Rev 1, Jun-2010; PackageVersion: revJ, 2009; PackageReference: T833+2; PackageDescription: 8-Pin Plastic Very Very Thin Dual Flatpack No Leads, Exposed Pad, 3 x 3 x 0.8 mm Body, TDFN-EP, Pb-Free; Code_JEDEC: MO-229-WEEC; ComponentLink1Description: Manufacturer URL; ComponentLink1URL: http://www.maxim-ic.com; ComponentLink2Description: Datasheet; ComponentLink2URL: http://datasheets.maxim-ic.com/en/ds/MAX16056-MAX16059.pdf; ComponentLink3Description: Package Specification; ComponentLink3URL: http://pdfserv.maxim-ic.com/package_dwgs/21-0137.PDF
footprint T833+2 (SON, 8-Leads, Body 3x3 mm, Pitch 0.65mm, Thermal Pad 2.35x1.58mm, Maxim Recommended)
pins: 1 ~{RESET} (out), 2 GND (power), 3 SWT (in), 4 ~{MR} (in), 5 SRT (in), 6 WDI (in), 7 WDS (in), 8 VCC (power), 9 EP (power)

## MAX16056ATA38+T
designator U?
125nA Supervisory Circuit with Capacitor-Adjustable Reset and Watchdog Timeouts, push-pull reset, Watch-dog timer, 8-Pin TDFN, -40°C to +125°C, Pb-Free, Tape and Reel; DatasheetVersion: Rev 1, Jun-2010; PackageVersion: revJ, 2009; PackageReference: T833+2; PackageDescription: 8-Pin Plastic Very Very Thin Dual Flatpack No Leads, Exposed Pad, 3 x 3 x 0.8 mm Body, TDFN-EP, Pb-Free; Code_JEDEC: MO-229-WEEC; ComponentLink1Description: Manufacturer URL; ComponentLink1URL: http://www.maxim-ic.com; ComponentLink2Description: Datasheet; ComponentLink2URL: http://datasheets.maxim-ic.com/en/ds/MAX16056-MAX16059.pdf; ComponentLink3Description: Package Specification; ComponentLink3URL: http://pdfserv.maxim-ic.com/package_dwgs/21-0137.PDF
footprint T833+2 (SON, 8-Leads, Body 3x3 mm, Pitch 0.65mm, Thermal Pad 2.35x1.58mm, Maxim Recommended)
pins: 1 ~{RESET} (out), 2 GND (power), 3 SWT (in), 4 ~{MR} (in), 5 SRT (in), 6 WDI (in), 7 WDS (in), 8 VCC (power), 9 EP (power)

## MAX16056ATA39+T
designator U?
125nA Supervisory Circuit with Capacitor-Adjustable Reset and Watchdog Timeouts, push-pull reset, Watch-dog timer, 8-Pin TDFN, -40°C to +125°C, Pb-Free, Tape and Reel; DatasheetVersion: Rev 1, Jun-2010; PackageVersion: revJ, 2009; PackageReference: T833+2; PackageDescription: 8-Pin Plastic Very Very Thin Dual Flatpack No Leads, Exposed Pad, 3 x 3 x 0.8 mm Body, TDFN-EP, Pb-Free; Code_JEDEC: MO-229-WEEC; ComponentLink1Description: Manufacturer URL; ComponentLink1URL: http://www.maxim-ic.com; ComponentLink2Description: Datasheet; ComponentLink2URL: http://datasheets.maxim-ic.com/en/ds/MAX16056-MAX16059.pdf; ComponentLink3Description: Package Specification; ComponentLink3URL: http://pdfserv.maxim-ic.com/package_dwgs/21-0137.PDF
footprint T833+2 (SON, 8-Leads, Body 3x3 mm, Pitch 0.65mm, Thermal Pad 2.35x1.58mm, Maxim Recommended)
pins: 1 ~{RESET} (out), 2 GND (power), 3 SWT (in), 4 ~{MR} (in), 5 SRT (in), 6 WDI (in), 7 WDS (in), 8 VCC (power), 9 EP (power)

## MAX16056ATA40+T
designator U?
125nA Supervisory Circuit with Capacitor-Adjustable Reset and Watchdog Timeouts, push-pull reset, Watch-dog timer, 8-Pin TDFN, -40°C to +125°C, Pb-Free, Tape and Reel; DatasheetVersion: Rev 1, Jun-2010; PackageVersion: revJ, 2009; PackageReference: T833+2; PackageDescription: 8-Pin Plastic Very Very Thin Dual Flatpack No Leads, Exposed Pad, 3 x 3 x 0.8 mm Body, TDFN-EP, Pb-Free; Code_JEDEC: MO-229-WEEC; ComponentLink1Description: Manufacturer URL; ComponentLink1URL: http://www.maxim-ic.com; ComponentLink2Description: Datasheet; ComponentLink2URL: http://datasheets.maxim-ic.com/en/ds/MAX16056-MAX16059.pdf; ComponentLink3Description: Package Specification; ComponentLink3URL: http://pdfserv.maxim-ic.com/package_dwgs/21-0137.PDF
footprint T833+2 (SON, 8-Leads, Body 3x3 mm, Pitch 0.65mm, Thermal Pad 2.35x1.58mm, Maxim Recommended)
pins: 1 ~{RESET} (out), 2 GND (power), 3 SWT (in), 4 ~{MR} (in), 5 SRT (in), 6 WDI (in), 7 WDS (in), 8 VCC (power), 9 EP (power)

## MAX16056ATA41+T
designator U?
125nA Supervisory Circuit with Capacitor-Adjustable Reset and Watchdog Timeouts, push-pull reset, Watch-dog timer, 8-Pin TDFN, -40°C to +125°C, Pb-Free, Tape and Reel; DatasheetVersion: Rev 1, Jun-2010; PackageVersion: revJ, 2009; PackageReference: T833+2; PackageDescription: 8-Pin Plastic Very Very Thin Dual Flatpack No Leads, Exposed Pad, 3 x 3 x 0.8 mm Body, TDFN-EP, Pb-Free; Code_JEDEC: MO-229-WEEC; ComponentLink1Description: Manufacturer URL; ComponentLink1URL: http://www.maxim-ic.com; ComponentLink2Description: Datasheet; ComponentLink2URL: http://datasheets.maxim-ic.com/en/ds/MAX16056-MAX16059.pdf; ComponentLink3Description: Package Specification; ComponentLink3URL: http://pdfserv.maxim-ic.com/package_dwgs/21-0137.PDF
footprint T833+2 (SON, 8-Leads, Body 3x3 mm, Pitch 0.65mm, Thermal Pad 2.35x1.58mm, Maxim Recommended)
pins: 1 ~{RESET} (out), 2 GND (power), 3 SWT (in), 4 ~{MR} (in), 5 SRT (in), 6 WDI (in), 7 WDS (in), 8 VCC (power), 9 EP (power)

## MAX16056ATA42+T
designator U?
125nA Supervisory Circuit with Capacitor-Adjustable Reset and Watchdog Timeouts, push-pull reset, Watch-dog timer, 8-Pin TDFN, -40°C to +125°C, Pb-Free, Tape and Reel; DatasheetVersion: Rev 1, Jun-2010; PackageVersion: revJ, 2009; PackageReference: T833+2; PackageDescription: 8-Pin Plastic Very Very Thin Dual Flatpack No Leads, Exposed Pad, 3 x 3 x 0.8 mm Body, TDFN-EP, Pb-Free; Code_JEDEC: MO-229-WEEC; ComponentLink1Description: Manufacturer URL; ComponentLink1URL: http://www.maxim-ic.com; ComponentLink2Description: Datasheet; ComponentLink2URL: http://datasheets.maxim-ic.com/en/ds/MAX16056-MAX16059.pdf; ComponentLink3Description: Package Specification; ComponentLink3URL: http://pdfserv.maxim-ic.com/package_dwgs/21-0137.PDF
footprint T833+2 (SON, 8-Leads, Body 3x3 mm, Pitch 0.65mm, Thermal Pad 2.35x1.58mm, Maxim Recommended)
pins: 1 ~{RESET} (out), 2 GND (power), 3 SWT (in), 4 ~{MR} (in), 5 SRT (in), 6 WDI (in), 7 WDS (in), 8 VCC (power), 9 EP (power)

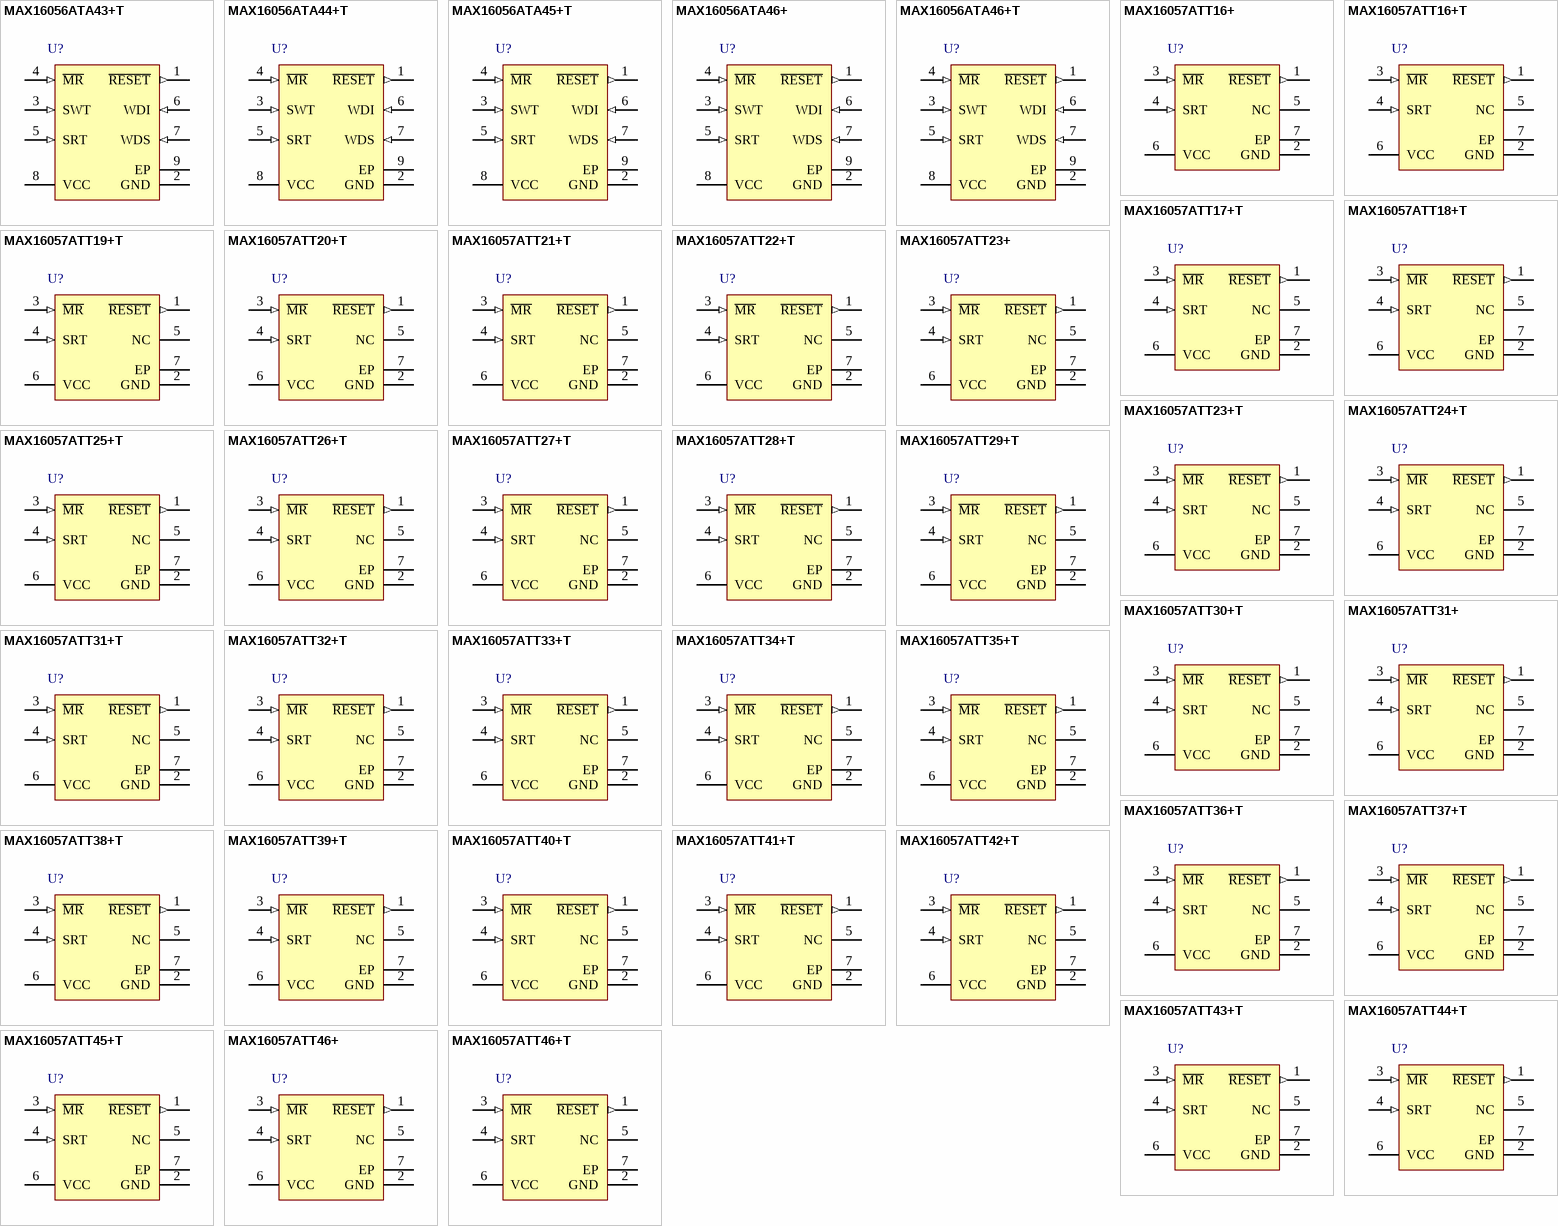
[diagram p9: symbols MAX16056ATA43+T to MAX16057ATT46+T]

## MAX16056ATA43+T
designator U?
125nA Supervisory Circuit with Capacitor-Adjustable Reset and Watchdog Timeouts, push-pull reset, Watch-dog timer, 8-Pin TDFN, -40°C to +125°C, Pb-Free, Tape and Reel; DatasheetVersion: Rev 1, Jun-2010; PackageVersion: revJ, 2009; PackageReference: T833+2; PackageDescription: 8-Pin Plastic Very Very Thin Dual Flatpack No Leads, Exposed Pad, 3 x 3 x 0.8 mm Body, TDFN-EP, Pb-Free; Code_JEDEC: MO-229-WEEC; ComponentLink1Description: Manufacturer URL; ComponentLink1URL: http://www.maxim-ic.com; ComponentLink2Description: Datasheet; ComponentLink2URL: http://datasheets.maxim-ic.com/en/ds/MAX16056-MAX16059.pdf; ComponentLink3Description: Package Specification; ComponentLink3URL: http://pdfserv.maxim-ic.com/package_dwgs/21-0137.PDF
footprint T833+2 (SON, 8-Leads, Body 3x3 mm, Pitch 0.65mm, Thermal Pad 2.35x1.58mm, Maxim Recommended)
pins: 1 ~{RESET} (out), 2 GND (power), 3 SWT (in), 4 ~{MR} (in), 5 SRT (in), 6 WDI (in), 7 WDS (in), 8 VCC (power), 9 EP (power)

## MAX16056ATA44+T
designator U?
125nA Supervisory Circuit with Capacitor-Adjustable Reset and Watchdog Timeouts, push-pull reset, Watch-dog timer, 8-Pin TDFN, -40°C to +125°C, Pb-Free, Tape and Reel; DatasheetVersion: Rev 1, Jun-2010; PackageVersion: revJ, 2009; PackageReference: T833+2; PackageDescription: 8-Pin Plastic Very Very Thin Dual Flatpack No Leads, Exposed Pad, 3 x 3 x 0.8 mm Body, TDFN-EP, Pb-Free; Code_JEDEC: MO-229-WEEC; ComponentLink1Description: Manufacturer URL; ComponentLink1URL: http://www.maxim-ic.com; ComponentLink2Description: Datasheet; ComponentLink2URL: http://datasheets.maxim-ic.com/en/ds/MAX16056-MAX16059.pdf; ComponentLink3Description: Package Specification; ComponentLink3URL: http://pdfserv.maxim-ic.com/package_dwgs/21-0137.PDF
footprint T833+2 (SON, 8-Leads, Body 3x3 mm, Pitch 0.65mm, Thermal Pad 2.35x1.58mm, Maxim Recommended)
pins: 1 ~{RESET} (out), 2 GND (power), 3 SWT (in), 4 ~{MR} (in), 5 SRT (in), 6 WDI (in), 7 WDS (in), 8 VCC (power), 9 EP (power)

## MAX16056ATA45+T
designator U?
125nA Supervisory Circuit with Capacitor-Adjustable Reset and Watchdog Timeouts, push-pull reset, Watch-dog timer, 8-Pin TDFN, -40°C to +125°C, Pb-Free, Tape and Reel; DatasheetVersion: Rev 1, Jun-2010; PackageVersion: revJ, 2009; PackageReference: T833+2; PackageDescription: 8-Pin Plastic Very Very Thin Dual Flatpack No Leads, Exposed Pad, 3 x 3 x 0.8 mm Body, TDFN-EP, Pb-Free; Code_JEDEC: MO-229-WEEC; ComponentLink1Description: Manufacturer URL; ComponentLink1URL: http://www.maxim-ic.com; ComponentLink2Description: Datasheet; ComponentLink2URL: http://datasheets.maxim-ic.com/en/ds/MAX16056-MAX16059.pdf; ComponentLink3Description: Package Specification; ComponentLink3URL: http://pdfserv.maxim-ic.com/package_dwgs/21-0137.PDF
footprint T833+2 (SON, 8-Leads, Body 3x3 mm, Pitch 0.65mm, Thermal Pad 2.35x1.58mm, Maxim Recommended)
pins: 1 ~{RESET} (out), 2 GND (power), 3 SWT (in), 4 ~{MR} (in), 5 SRT (in), 6 WDI (in), 7 WDS (in), 8 VCC (power), 9 EP (power)

## MAX16056ATA46+
designator U?
125nA Supervisory Circuit with Capacitor-Adjustable Reset and Watchdog Timeouts, push-pull reset, Watch-dog timer, 8-Pin TDFN, -40°C to +125°C, Pb-Free; DatasheetVersion: Rev 1, Jun-2010; PackageVersion: revJ, 2009; PackageReference: T833+2; PackageDescription: 8-Pin Plastic Very Very Thin Dual Flatpack No Leads, Exposed Pad, 3 x 3 x 0.8 mm Body, TDFN-EP, Pb-Free; Code_JEDEC: MO-229-WEEC; ComponentLink1Description: Manufacturer URL; ComponentLink1URL: http://www.maxim-ic.com; ComponentLink2Description: Datasheet; ComponentLink2URL: http://datasheets.maxim-ic.com/en/ds/MAX16056-MAX16059.pdf; ComponentLink3Description: Package Specification; ComponentLink3URL: http://pdfserv.maxim-ic.com/package_dwgs/21-0137.PDF
footprint T833+2 (SON, 8-Leads, Body 3x3 mm, Pitch 0.65mm, Thermal Pad 2.35x1.58mm, Maxim Recommended)
pins: 1 ~{RESET} (out), 2 GND (power), 3 SWT (in), 4 ~{MR} (in), 5 SRT (in), 6 WDI (in), 7 WDS (in), 8 VCC (power), 9 EP (power)

## MAX16056ATA46+T
designator U?
125nA Supervisory Circuit with Capacitor-Adjustable Reset and Watchdog Timeouts, push-pull reset, Watch-dog timer, 8-Pin TDFN, -40°C to +125°C, Pb-Free, Tape and Reel; DatasheetVersion: Rev 1, Jun-2010; PackageVersion: revJ, 2009; PackageReference: T833+2; PackageDescription: 8-Pin Plastic Very Very Thin Dual Flatpack No Leads, Exposed Pad, 3 x 3 x 0.8 mm Body, TDFN-EP, Pb-Free; Code_JEDEC: MO-229-WEEC; ComponentLink1Description: Manufacturer URL; ComponentLink1URL: http://www.maxim-ic.com; ComponentLink2Description: Datasheet; ComponentLink2URL: http://datasheets.maxim-ic.com/en/ds/MAX16056-MAX16059.pdf; ComponentLink3Description: Package Specification; ComponentLink3URL: http://pdfserv.maxim-ic.com/package_dwgs/21-0137.PDF
footprint T833+2 (SON, 8-Leads, Body 3x3 mm, Pitch 0.65mm, Thermal Pad 2.35x1.58mm, Maxim Recommended)
pins: 1 ~{RESET} (out), 2 GND (power), 3 SWT (in), 4 ~{MR} (in), 5 SRT (in), 6 WDI (in), 7 WDS (in), 8 VCC (power), 9 EP (power)

## MAX16057ATT16+
designator U?
125nA Supervisory Circuit with Capacitor-Adjustable Reset and Watchdog Timeouts, push-pull reset, 6-Pin TDFN, -40°C to +125°C, Pb-Free; DatasheetVersion: Rev 1, Jun-2010; PackageVersion: revJ, 2009; PackageReference: T633+2; PackageDescription: 6-Pin Plastic Very Very Thin Dual Flatpack No Leads, Exposed Pad, 3 x 3 x 0.8 mm Body, TDFN-EP, Pb-Free; Code_JEDEC: MO-229-WEEA; ComponentLink1Description: Manufacturer URL; ComponentLink1URL: http://www.maxim-ic.com; ComponentLink2Description: Datasheet; ComponentLink2URL: http://datasheets.maxim-ic.com/en/ds/MAX16056-MAX16059.pdf; ComponentLink3Description: Package Specification; ComponentLink3URL: http://pdfserv.maxim-ic.com/package_dwgs/21-0137.PDF
footprint T633+2_V (SON, 6-Leads, Body 3x3mm, Pitch 0.95mm, Thermal Pad 2.35x1.6mm, Maxim Recommended)
pins: 1 ~{RESET} (out), 2 GND (power), 3 ~{MR} (in), 4 SRT (in), 5 NC, 6 VCC (power), 7 EP (power)

## MAX16057ATT16+T
designator U?
125nA Supervisory Circuit with Capacitor-Adjustable Reset and Watchdog Timeouts, push-pull reset, 6-Pin TDFN, -40°C to +125°C, Pb-Free, Tape and Reel; DatasheetVersion: Rev 1, Jun-2010; PackageVersion: revJ, 2009; PackageReference: T633+2; PackageDescription: 6-Pin Plastic Very Very Thin Dual Flatpack No Leads, Exposed Pad, 3 x 3 x 0.8 mm Body, TDFN-EP, Pb-Free; Code_JEDEC: MO-229-WEEA; ComponentLink1Description: Manufacturer URL; ComponentLink1URL: http://www.maxim-ic.com; ComponentLink2Description: Datasheet; ComponentLink2URL: http://datasheets.maxim-ic.com/en/ds/MAX16056-MAX16059.pdf; ComponentLink3Description: Package Specification; ComponentLink3URL: http://pdfserv.maxim-ic.com/package_dwgs/21-0137.PDF
footprint T633+2_V (SON, 6-Leads, Body 3x3mm, Pitch 0.95mm, Thermal Pad 2.35x1.6mm, Maxim Recommended)
pins: 1 ~{RESET} (out), 2 GND (power), 3 ~{MR} (in), 4 SRT (in), 5 NC, 6 VCC (power), 7 EP (power)

## MAX16057ATT17+T
designator U?
125nA Supervisory Circuit with Capacitor-Adjustable Reset and Watchdog Timeouts, push-pull reset, 6-Pin TDFN, -40°C to +125°C, Pb-Free, Tape and Reel; DatasheetVersion: Rev 1, Jun-2010; PackageVersion: revJ, 2009; PackageReference: T633+2; PackageDescription: 6-Pin Plastic Very Very Thin Dual Flatpack No Leads, Exposed Pad, 3 x 3 x 0.8 mm Body, TDFN-EP, Pb-Free; Code_JEDEC: MO-229-WEEA; ComponentLink1Description: Manufacturer URL; ComponentLink1URL: http://www.maxim-ic.com; ComponentLink2Description: Datasheet; ComponentLink2URL: http://datasheets.maxim-ic.com/en/ds/MAX16056-MAX16059.pdf; ComponentLink3Description: Package Specification; ComponentLink3URL: http://pdfserv.maxim-ic.com/package_dwgs/21-0137.PDF
footprint T633+2_V (SON, 6-Leads, Body 3x3mm, Pitch 0.95mm, Thermal Pad 2.35x1.6mm, Maxim Recommended)
pins: 1 ~{RESET} (out), 2 GND (power), 3 ~{MR} (in), 4 SRT (in), 5 NC, 6 VCC (power), 7 EP (power)

## MAX16057ATT18+T
designator U?
125nA Supervisory Circuit with Capacitor-Adjustable Reset and Watchdog Timeouts, push-pull reset, 6-Pin TDFN, -40°C to +125°C, Pb-Free, Tape and Reel; DatasheetVersion: Rev 1, Jun-2010; PackageVersion: revJ, 2009; PackageReference: T633+2; PackageDescription: 6-Pin Plastic Very Very Thin Dual Flatpack No Leads, Exposed Pad, 3 x 3 x 0.8 mm Body, TDFN-EP, Pb-Free; Code_JEDEC: MO-229-WEEA; ComponentLink1Description: Manufacturer URL; ComponentLink1URL: http://www.maxim-ic.com; ComponentLink2Description: Datasheet; ComponentLink2URL: http://datasheets.maxim-ic.com/en/ds/MAX16056-MAX16059.pdf; ComponentLink3Description: Package Specification; ComponentLink3URL: http://pdfserv.maxim-ic.com/package_dwgs/21-0137.PDF
footprint T633+2_V (SON, 6-Leads, Body 3x3mm, Pitch 0.95mm, Thermal Pad 2.35x1.6mm, Maxim Recommended)
pins: 1 ~{RESET} (out), 2 GND (power), 3 ~{MR} (in), 4 SRT (in), 5 NC, 6 VCC (power), 7 EP (power)

## MAX16057ATT19+T
designator U?
125nA Supervisory Circuit with Capacitor-Adjustable Reset and Watchdog Timeouts, push-pull reset, 6-Pin TDFN, -40°C to +125°C, Pb-Free, Tape and Reel; DatasheetVersion: Rev 1, Jun-2010; PackageVersion: revJ, 2009; PackageReference: T633+2; PackageDescription: 6-Pin Plastic Very Very Thin Dual Flatpack No Leads, Exposed Pad, 3 x 3 x 0.8 mm Body, TDFN-EP, Pb-Free; Code_JEDEC: MO-229-WEEA; ComponentLink1Description: Manufacturer URL; ComponentLink1URL: http://www.maxim-ic.com; ComponentLink2Description: Datasheet; ComponentLink2URL: http://datasheets.maxim-ic.com/en/ds/MAX16056-MAX16059.pdf; ComponentLink3Description: Package Specification; ComponentLink3URL: http://pdfserv.maxim-ic.com/package_dwgs/21-0137.PDF
footprint T633+2_V (SON, 6-Leads, Body 3x3mm, Pitch 0.95mm, Thermal Pad 2.35x1.6mm, Maxim Recommended)
pins: 1 ~{RESET} (out), 2 GND (power), 3 ~{MR} (in), 4 SRT (in), 5 NC, 6 VCC (power), 7 EP (power)

## MAX16057ATT20+T
designator U?
125nA Supervisory Circuit with Capacitor-Adjustable Reset and Watchdog Timeouts, push-pull reset, 6-Pin TDFN, -40°C to +125°C, Pb-Free, Tape and Reel; DatasheetVersion: Rev 1, Jun-2010; PackageVersion: revJ, 2009; PackageReference: T633+2; PackageDescription: 6-Pin Plastic Very Very Thin Dual Flatpack No Leads, Exposed Pad, 3 x 3 x 0.8 mm Body, TDFN-EP, Pb-Free; Code_JEDEC: MO-229-WEEA; ComponentLink1Description: Manufacturer URL; ComponentLink1URL: http://www.maxim-ic.com; ComponentLink2Description: Datasheet; ComponentLink2URL: http://datasheets.maxim-ic.com/en/ds/MAX16056-MAX16059.pdf; ComponentLink3Description: Package Specification; ComponentLink3URL: http://pdfserv.maxim-ic.com/package_dwgs/21-0137.PDF
footprint T633+2_V (SON, 6-Leads, Body 3x3mm, Pitch 0.95mm, Thermal Pad 2.35x1.6mm, Maxim Recommended)
pins: 1 ~{RESET} (out), 2 GND (power), 3 ~{MR} (in), 4 SRT (in), 5 NC, 6 VCC (power), 7 EP (power)

## MAX16057ATT21+T
designator U?
125nA Supervisory Circuit with Capacitor-Adjustable Reset and Watchdog Timeouts, push-pull reset, 6-Pin TDFN, -40°C to +125°C, Pb-Free, Tape and Reel; DatasheetVersion: Rev 1, Jun-2010; PackageVersion: revJ, 2009; PackageReference: T633+2; PackageDescription: 6-Pin Plastic Very Very Thin Dual Flatpack No Leads, Exposed Pad, 3 x 3 x 0.8 mm Body, TDFN-EP, Pb-Free; Code_JEDEC: MO-229-WEEA; ComponentLink1Description: Manufacturer URL; ComponentLink1URL: http://www.maxim-ic.com; ComponentLink2Description: Datasheet; ComponentLink2URL: http://datasheets.maxim-ic.com/en/ds/MAX16056-MAX16059.pdf; ComponentLink3Description: Package Specification; ComponentLink3URL: http://pdfserv.maxim-ic.com/package_dwgs/21-0137.PDF
footprint T633+2_V (SON, 6-Leads, Body 3x3mm, Pitch 0.95mm, Thermal Pad 2.35x1.6mm, Maxim Recommended)
pins: 1 ~{RESET} (out), 2 GND (power), 3 ~{MR} (in), 4 SRT (in), 5 NC, 6 VCC (power), 7 EP (power)

## MAX16057ATT22+T
designator U?
125nA Supervisory Circuit with Capacitor-Adjustable Reset and Watchdog Timeouts, push-pull reset, 6-Pin TDFN, -40°C to +125°C, Pb-Free, Tape and Reel; DatasheetVersion: Rev 1, Jun-2010; PackageVersion: revJ, 2009; PackageReference: T633+2; PackageDescription: 6-Pin Plastic Very Very Thin Dual Flatpack No Leads, Exposed Pad, 3 x 3 x 0.8 mm Body, TDFN-EP, Pb-Free; Code_JEDEC: MO-229-WEEA; ComponentLink1Description: Manufacturer URL; ComponentLink1URL: http://www.maxim-ic.com; ComponentLink2Description: Datasheet; ComponentLink2URL: http://datasheets.maxim-ic.com/en/ds/MAX16056-MAX16059.pdf; ComponentLink3Description: Package Specification; ComponentLink3URL: http://pdfserv.maxim-ic.com/package_dwgs/21-0137.PDF
footprint T633+2_V (SON, 6-Leads, Body 3x3mm, Pitch 0.95mm, Thermal Pad 2.35x1.6mm, Maxim Recommended)
pins: 1 ~{RESET} (out), 2 GND (power), 3 ~{MR} (in), 4 SRT (in), 5 NC, 6 VCC (power), 7 EP (power)

## MAX16057ATT23+
designator U?
125nA Supervisory Circuit with Capacitor-Adjustable Reset and Watchdog Timeouts, push-pull reset, 6-Pin TDFN, -40°C to +125°C, Pb-Free; DatasheetVersion: Rev 1, Jun-2010; PackageVersion: revJ, 2009; PackageReference: T633+2; PackageDescription: 6-Pin Plastic Very Very Thin Dual Flatpack No Leads, Exposed Pad, 3 x 3 x 0.8 mm Body, TDFN-EP, Pb-Free; Code_JEDEC: MO-229-WEEA; ComponentLink1Description: Manufacturer URL; ComponentLink1URL: http://www.maxim-ic.com; ComponentLink2Description: Datasheet; ComponentLink2URL: http://datasheets.maxim-ic.com/en/ds/MAX16056-MAX16059.pdf; ComponentLink3Description: Package Specification; ComponentLink3URL: http://pdfserv.maxim-ic.com/package_dwgs/21-0137.PDF
footprint T633+2_V (SON, 6-Leads, Body 3x3mm, Pitch 0.95mm, Thermal Pad 2.35x1.6mm, Maxim Recommended)
pins: 1 ~{RESET} (out), 2 GND (power), 3 ~{MR} (in), 4 SRT (in), 5 NC, 6 VCC (power), 7 EP (power)